# Altium schematic symbol library Semiconductor.SchLib: 45 symbols (part 1 of 2)
Pins are listed as number, name and electrical type; pins without a type are passive.

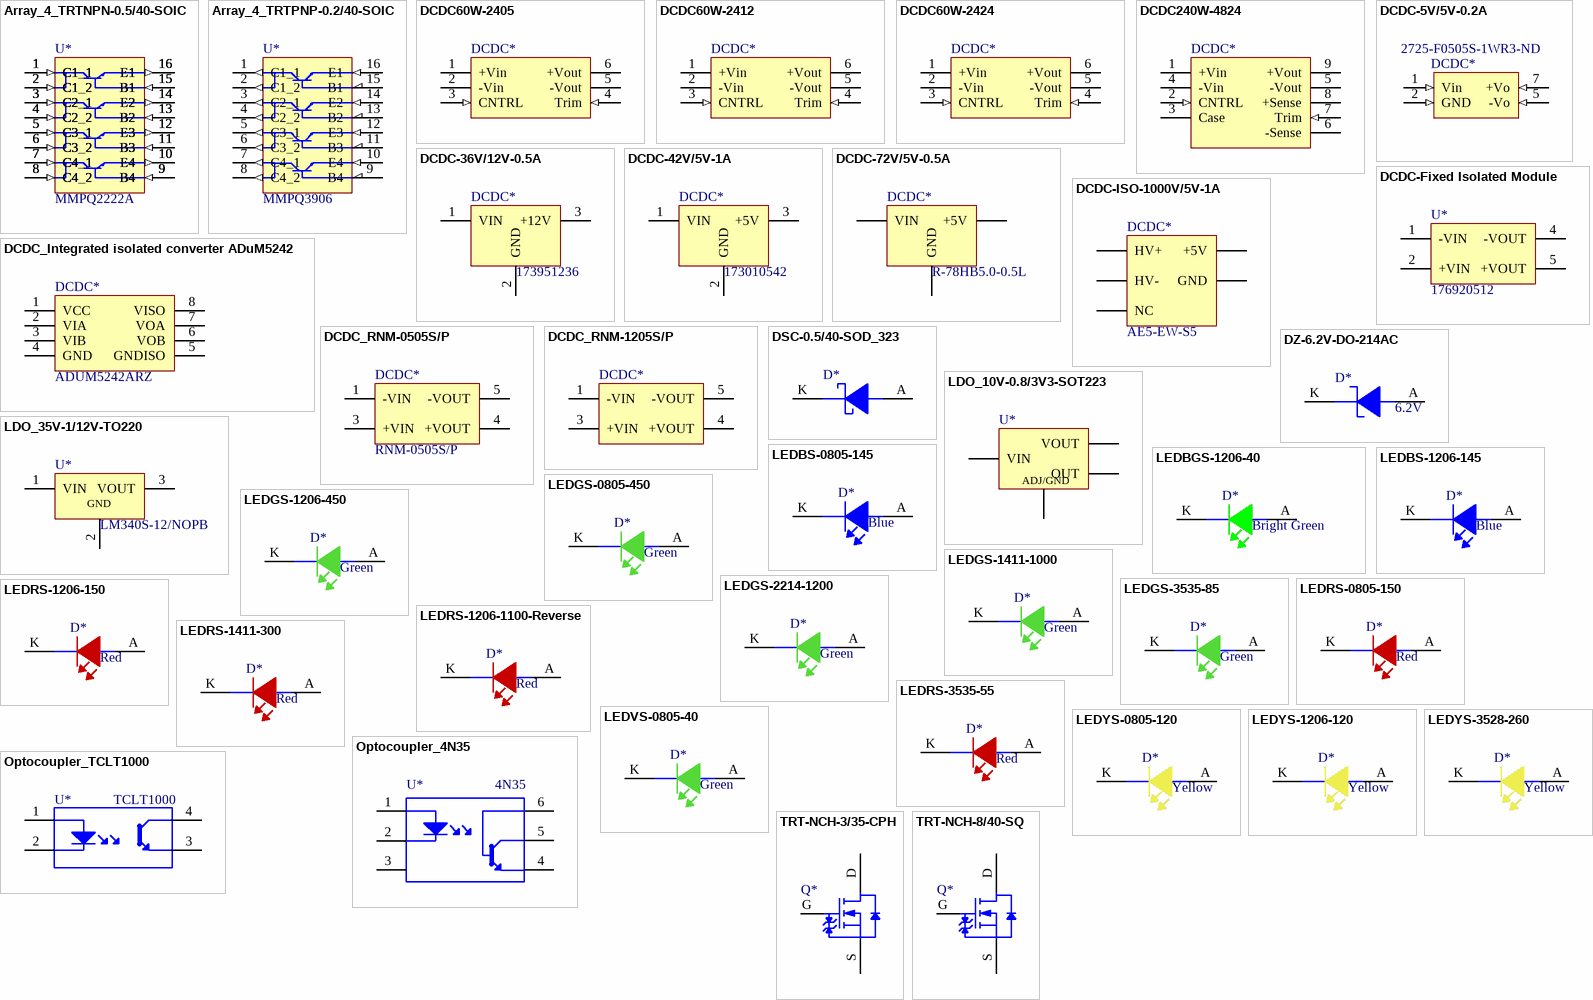
[diagram p0: symbols Array_4_TRTNPN-0.5/40-SOIC to TRT-NCH-8/40-SQ]

## Array_4_TRTNPN-0.5/40-SOIC
designator U*, comment MMPQ2222A
MMPQ Series NPN 40 V 500 mA 1000 mW SMT General Purpose Amplifier - SOIC-16; Manufacturer: onsemi / Fairchild; Max power dissipation: 1 W; Operating voltageBE sat: 2 V; Maximum collector current: 500 mA; Max Gain: 300; hFE Min: 100; Collector Emitter Voltage (VCEO): 40V; Collector Base Voltage (VCBO): 75V; Emitter Base Voltage (VEBO): 5V; Max Collector Current: 500mA; Gain Bandwidth Product: 350MHz; Collector Emitter Saturation Voltage: 1V; Transition Frequency: 300MHz; Number of Elements: 4; Power Dissipation: 1W; .Creator: GP; Category: Array; ComponentLink1Description: Datasheet; ComponentLink1URL: https://www.mouser.es/datasheet/2/308/1/MMPQ2222A_D-2316466.pdf; ComponentLink2Description: Where buy it; ComponentLink2URL: https://eu.mouser.com/ProductDetail/onsemi-Fairchild/MMPQ2222A?qs=sGAEpiMZZMsVgcksf1EMUhSy8Jez1Eyb; Package: SOIC 16; Type: BJT; Supplier: MOUSER; Packaging: Reel; Max operating temperature: 150ºC; Min operating temperature: -55ºC; Mount: SMD; RoHS: *; Polarity: NPN; Supplier 1: Digi-Key; Pricing 1: 1=2,10000, 10=1,88300, 100=1,51340, 500=1,24340, 1000=1,17302 (USD); Case/Package: SOIC; Number of Pins: 16; Weight: 0.143g; Package Quantity: 1; Collector Emitter Breakdown Voltage: 40V; Max Breakdown Voltage: 40V; Frequency: 300MHz; Max Frequency: 300MHz; Length: 10mm; Width: 4mm; Height: 1.5mm; Radiation Hardening: No; Lead Free: Lead Free; RoHS Compliant: Yes; REACH SVHC: No SVHC; Supplier Part Number 1: MMPQ2222ADKR-ND; .PCBcheck: *; .SCHcheck: *; Manufacturer part number: MMPQ2222A
footprint Array_4_TRTNPN-0.5/40-SOIC (SOIC, 16-Leads, Body 9,90x3,90mm, Pitch 1,27mm, IPC Low Density)
pins: 1 C1_1 (in), 1 C1_1 (in), 1 C1_1 (in), 1 C1_1 (in), 1 C1_1 (in), 1 C1_1 (in), 1 C1_1 (in), 1 C1_1 (in), 2 C1_2 (in), 2 C1_2 (in), 2 C1_2 (in), 2 C1_2 (in), 2 C1_2 (in), 2 C1_2 (in), 2 C1_2 (in), 2 C1_2 (in), 3 C2_1 (in), 3 C2_1 (in), 3 C2_1 (in), 3 C2_1 (in), 3 C2_1 (in), 3 C2_1 (in), 3 C2_1 (in), 3 C2_1 (in), 4 C2_2 (in), 4 C2_2 (in), 4 C2_2 (in), 4 C2_2 (in), 4 C2_2 (in), 4 C2_2 (in), 4 C2_2 (in), 4 C2_2 (in), 5 C3_1 (in), 5 C3_1 (in), 5 C3_1 (in), 5 C3_1 (in), 5 C3_1 (in), 5 C3_1 (in), 5 C3_1 (in), 5 C3_1 (in), 6 C3_2 (in), 6 C3_2 (in), 6 C3_2 (in), 6 C3_2 (in), 6 C3_2 (in), 6 C3_2 (in), 6 C3_2 (in), 6 C3_2 (in), 7 C4_1 (in), 7 C4_1 (in), 7 C4_1 (in), 7 C4_1 (in), 7 C4_1 (in), 7 C4_1 (in), 7 C4_1 (in), 7 C4_1 (in), 8 C4_2 (in), 8 C4_2 (in), 8 C4_2 (in), 8 C4_2 (in), 8 C4_2 (in), 8 C4_2 (in), 8 C4_2 (in), 8 C4_2 (in), 9 B4 (in), 9 B4 (in), 9 B4 (in), 9 B4 (in), 9 B4 (in), 9 B4 (in), 9 B4 (in), 9 B4 (in), 10 E4 (out), 10 E4 (out), 10 E4 (out), 10 E4 (out), 10 E4 (out), 10 E4 (out), 10 E4 (out), 10 E4 (out), 11 B3 (in), 11 B3 (in), 11 B3 (in), 11 B3 (in), 11 B3 (in), 11 B3 (in), 11 B3 (in), 11 B3 (in), 12 E3 (out), 12 E3 (out), 12 E3 (out), 12 E3 (out), 12 E3 (out), 12 E3 (out), 12 E3 (out), 12 E3 (out), 13 B2 (in), 13 B2 (in), 13 B2 (in), 13 B2 (in), 13 B2 (in), 13 B2 (in), 13 B2 (in), 13 B2 (in), 14 E2 (out), 14 E2 (out), 14 E2 (out), 14 E2 (out), 14 E2 (out), 14 E2 (out), 14 E2 (out), 14 E2 (out), 15 B1 (in), 15 B1 (in), 15 B1 (in), 15 B1 (in), 15 B1 (in), 15 B1 (in), 15 B1 (in), 15 B1 (in), 16 E1 (out), 16 E1 (out), 16 E1 (out), 16 E1 (out), 16 E1 (out), 16 E1 (out), 16 E1 (out), 16 E1 (out)

## Array_4_TRTPNP-0.2/40-SOIC
designator U*, comment MMPQ3906
4PNP Ic=-200mA Vceo=-40V hfe=100~300 P=1W 4通路; Manufacturer: onsemi / Fairchild; Max power dissipation: 1 W; Polarity: PNP; Operating voltage BE sat: -0.95 V; Maximum current collector: -200 mA; Max Gain: 75; Collector Emitter Voltage (VCEO): 40V; Max Collector Current: 200mA; Collector Base Voltage (VCBO): -40V; Emitter Base Voltage (VEBO): -5V; Gain Bandwidth Product: 200MHz; Collector Emitter Saturation Voltage: -100mV; Number of Elements: 4; Power Dissipation: 1W; Current Rating: -200mA; Collector-emitter Voltage-Max: 400mV; .Creator: GP; Category: Array; ComponentLink1Description: Datasheet; ComponentLink1URL: https://www.mouser.es/datasheet/2/308/MMPQ3906_D-2256510.pdf; ComponentLink2Description: Where buy it; ComponentLink2URL: https://www.mouser.es/ProductDetail/onsemi-Fairchild/MMPQ3906?qs=sGAEpiMZZMsVgcksf1EMUrQIjupPJFhO; Package: SOIC 16; Type: BJT; Supplier: MOUSER; Packaging: Reel; Max operating temperature: 150ºC; Min operating temperature: -55ºC; Mount: SMD; RoHS: *; Supplier 1: Digi-Key; Pricing 1: 1=2,10000, 10=1,88300, 100=1,51340, 500=1,24340, 1000=1,17302 (USD); Case/Package: SOIC; Number of Pins: 16; Weight: 0.143g; Package Quantity: 2500; hFE Min: 75; Collector Emitter Breakdown Voltage: 40V; Transition Frequency: 200MHz; Max Breakdown Voltage: 40V; Frequency: 200MHz; Max Frequency: 200MHz; Voltage Rating (DC): -40V; Series: -; Length: 10mm; Width: 4mm; Height: 1.5mm; Radiation Hardening: No; Lead Free: Lead Free; RoHS Compliant: Yes; REACH SVHC: No SVHC; Supplier Part Number 1: MMPQ3906DKR-ND; Manufacturer part number: MMPQ3906
footprint Array_4_TRTPNP-0.2/40-SOIC (SOIC, 16-Leads, Body 9,90x3,90mm, Pitch 1,27mm, IPC Low Density)
pins: 1 C1_1 (out), 2 C1_2 (out), 3 C2_1 (out), 4 C2_2 (out), 5 C3_1 (out), 6 C3_2 (out), 7 C4_1 (out), 8 C4_2 (out), 9 B4, 10 E4 (in), 11 B3, 12 E3 (in), 13 B2, 14 E2 (in), 15 B1, 16 E1 (in)

## DCDC60W-2405
designator DCDC*, comment RPA60-2405SFW  (value not drawn)
60W DC/DC-Converter 'POWERLINE' 2 x1 1.5kV reg 4: ; V. In: 9-36; V. Out: 05; mA. Out: 12000; Manufacturer: Recom; Manufacturer Part Number: RPA60-2405SFW/N; Max Output Voltage: 5.5V; .Creator: GP; Supplier 1: RSComponents; Supplier 2: Newark; RoHS: Yes; Category: Board Mount Modules; Pricing 2: 5=81,27000, 25=77,55000, 50=75,49000, 100=73,02000, 250=70,54000 (USD); Weight: 35g; Length: 50.8mm; Width: 25.4mm; Height: 10.2mm; Lead Free: Lead Free; ComponentLink1URL: https://www.recom-power.com/pdf/Powerline-DC-DC/RPA60-FW.pdf?src-supplier=Digi-Key; ComponentLink1Description: https://www.recom-power.com/pdf/Powerline-DC-DC/RPA60-FW.pdf?src-supplier=Digi-Key; Supplier Part Number 2: 99Y7315
footprint DCDC60W-24
pins: 1 +Vin (power), 2 -Vin (power), 3 CNTRL (in), 4 Trim (in), 5 -Vout (power), 6 +Vout (power)

## DCDC60W-2412
designator DCDC*, comment RPA60-2412SFW  (value not drawn)
60W DC/DC-Converter 'POWERLINE' 2 x1 1.5kV reg 4: ; V. In: 9-36; V. Out: 12; mA. Out: 5000; Manufacturer: Recom; Manufacturer Part Number: RPA60-2412SFW/P; Max Output Voltage: 13.2V; .Creator: GP; Supplier 1: RSComponents; RoHS: Yes; Category: Voltage Regulators - Switching; Stock 1: 23; Pricing 1: 1=70,90300, 5=68,06500, 10=66,65300, 25=65,22800, 50=63,81600 (USD); Weight: 35g; Length: 50.8mm; Width: 25.4mm; Height: 10.2mm; Lead Free: Lead Free; ComponentLink1URL: https://www.recom-power.com/pdf/Powerline-DC-DC/RPA60-FW.pdf?src-supplier=Digi-Key; ComponentLink1Description: https://www.recom-power.com/pdf/Powerline-DC-DC/RPA60-FW.pdf?src-supplier=Digi-Key; Supplier Part Number 1: 1244227
footprint DCDC60W-24
pins: 1 +Vin (power), 2 -Vin (power), 3 CNTRL (in), 4 Trim (in), 5 -Vout (power), 6 +Vout (power)

## DCDC60W-2424
designator DCDC*, comment RPA60-2424SFW  (value not drawn)
60W DC/DC-Converter 'POWERLINE' 2 x1 1.5kV reg 4: ; V. In: 9-36; V. Out: 24; mA. Out: 2500; Manufacturer: Recom; Manufacturer Part Number: RPA60-2424SFW/P; Max Output Voltage: 26.4V; .Creator: GP; Supplier 1: RSComponents; RoHS: Yes; Category: Voltage Regulators - Switching; Stock 1: 1; Pricing 1: 1=70,91700, 5=68,79200, 10=66,66700, 25=64,52800, 50=62,40300 (USD); Weight: 35g; Length: 50.8mm; Width: 25.4mm; Height: 10.2mm; Lead Free: Lead Free; ComponentLink1URL: https://www.recom-power.com/pdf/Powerline-DC-DC/RPA60-FW.pdf?src-supplier=Digi-Key; ComponentLink1Description: https://www.recom-power.com/pdf/Powerline-DC-DC/RPA60-FW.pdf?src-supplier=Digi-Key; Supplier Part Number 1: 1244229
footprint DCDC60W-24
pins: 1 +Vin (power), 2 -Vin (power), 3 CNTRL (in), 4 Trim (in), 5 -Vout (power), 6 +Vout (power)

## DCDC240W-4824
designator DCDC*, comment RP240H-4824SRW  (value not drawn)
240W DC/DC-Converter 'POWERLINE' 1/2 Brick 2.25kV ; V. In: 16.5-75; V. Out: 24; mA. Out: 9000; Manufacturer: Recom; Manufacturer Part Number: RP240H-4824SRW/P; Max Output Voltage: 26.4V; .Creator: GP; Supplier 1: Digi-Key; RoHS: Yes; Category: Board Mount Modules; Stock 1: 26; Pricing 1: 1=284,28000, 5=273,12600, 10=268,64800, 25=250,73800 (USD); Weight: 105g; Length: 61mm; Width: 57.9mm; Height: 12.7mm; RoHS Compliant: Yes; ComponentLink1URL: https://www.recom-power.com/pdf/Powerline-DC-DC/RP240H-RW.pdf?src-supplier=Digi-Key; ComponentLink1Description: https://www.recom-power.com/pdf/Powerline-DC-DC/RP240H-RW.pdf?src-supplier=Digi-Key; Supplier Part Number 1: RP240H-4824SRW/P-ND
footprint DCDC240W-4824
pins: 1 +Vin (power), 2 CNTRL (in), 3 Case, 4 -Vin (power), 5 -Vout (power), 6 -Sense, 7 Trim (in), 8 +Sense, 9 +Vout (power)

## DCDC-5V/5V-0.2A
designator DCDC*  Supplier Part Number 1: 2725-F0505S-1WR3-ND
Module DC-DC 5VIN 1-OUT 5V 0.2A 1W 4-Pin SIP Module Bag; Manufacturer: MORNSUN; Manufacturer Part Number: F0505S-1WR3; Supplier 1: Digi-Key; RoHS: No; Category: Board Mount Modules; Stock 1: 23492; Pricing 1: 1=2,32, 5=2,288, 10=2,255, 25=2,1884, 50=2,1222, 100=2,0559, 250=1,98956, 500=1,85692 (USD); ComponentLink1Description: New link; ComponentLink1URL: *
footprint F_S-1WR3
pins: 1 Vin (in), 2 GND (in), 5 -Vo (in), 7 +Vo (in)

## DCDC-36V/12V-0.5A
designator DCDC*, comment 173951236
Fdsm Fixed Step Down Regulator M; Manufacturer 1: Wurth Electronics; Supplier 1: Digi-Key; Manufacturer Part Number 1: 173951236; RoHS: No; Category: Board Mount Modules; Stock 1: 32; Pricing 1: 1=3,29000, 10=2,99100, 20=2,81300, 30=2,63600, 43=2,39907 (USD); Supplier Part Number 1: 732-173951236-ND; ComponentLink1Description: Datasheet; ComponentLink1URL: https://www.we-online.com/catalog/datasheet/173951236.pdf
footprint DCDC_Magi3c
pins: 1 VIN, 2 GND, 3 +12V

## DCDC-42V/5V-1A
designator DCDC*, comment 173010542
Würth Elektronik 8-42V to 5V 1A DC-DC; Manufacturer 1: Wurth Electronics; Number of Outputs: 1; Min Input Voltage: 8V; Max Input Voltage: 42V; Efficiency: 93%; .Creator: DR; Supplier 1: RSComponents; Manufacturer Part Number 1: 173010542; RoHS: Yes; Stock 1: 1; Pricing 1: 1=12,22500, 8=10,96900, 21=10,68900 (USD); Mount: Through Hole; Min Operating Temperature: -40°C; Max Operating Temperature: 85°C; Features: UVLO,OCP,OTP,SCP; Packaging: Rail/Tube; Voltage - Output 1: 5V; Max Output Current: 1A; RoHS Compliant: Yes; ComponentLink1URL: http://www.farnell.com/datasheets/2192895.pdf?src-supplier=Farnell; ComponentLink1Description: http://www.farnell.com/datasheets/2192895.pdf?src-supplier=Farnell; ComponentLink2URL: http://www.farnell.com/datasheets/2192895.pdf?src-supplier=Newark; ComponentLink2Description: http://www.farnell.com/datasheets/2192895.pdf?src-supplier=Newark; ComponentLink3URL: https://katalog.we-online.de/pm/datasheet/173010542.pdf?src-supplier=Digi-Key; ComponentLink3Description: https://katalog.we-online.de/pm/datasheet/173010542.pdf?src-supplier=Digi-Key; Supplier Part Number 1: 1447809
footprint DCDC_Magi3c
pins: 1 VIN, 2 GND, 3 +5V

## DCDC-72V/5V-0.5A
designator DCDC*, comment R-78HB5.0-0.5L
0.5A DC/DC-Converter 'INNOLINE' SIP3 reg; V. In: 9-72; V. Out: 5.0; mA. Out: 500; Manufacturer 1: Recom; Min Input Voltage: 9V; Max Input Voltage: 72V; Number of Outputs: 1; Nominal Output Voltage: 5V; Max Output Current: 500mA; Efficiency: 87%; Nominal Input Voltage: 48V; Isolation Voltage: 1.6kV; Power Rating: 2.5W; Isolation: Non-Isolated; Accuracy: 2%; Pitch: 2.54mm; .Creator: DR; ComponentLink1URL: https://www.mouser.es/datasheet/2/468/R-78HB-0.5-1711026.pdf; ComponentLink1Description: Datasheet; ComponentLink2Description: Where buy it; ComponentLink2URL: https://www.mouser.es/ProductDetail/RECOM-Power/R-78HB50-05L?qs=XF8hdbuHJAWcQ9kfabZ7zw%3D%3D; Supplier 1: RSComponents; Manufacturer Part Number 1: R-78HB5.0-0.5L; RoHS: Yes; Category: Voltage Regulators - Switching; Stock 1: 1; Pricing 1: 1=15,32000, 5=14,71600, 10=14,39500, 25=14,10000, 50=13,80500 (USD); Mount: Through Hole,PCB; Case/Package: SIP; Weight: 4g; Min Operating Temperature: -40°C; Max Operating Temperature: 85°C; Output Voltage: 5V; Packaging: Rail/Tube; Output Current: 500mA; Min Input Voltage (DC): 9V; Max Input Voltage (DC): 72V; Package Quantity: 42; Voltage - Output 1: 5V; Current - Output 1: 500mA; Output Power: 2.5W; Max Output Power: 2.5W; Max Power Dissipation: 2.5W; Max Output Voltage: 5V; Features: OTP,SCP; Series: INNOLINE R-78HBxx; Length: 11.5mm; Width: 8.5mm; Height: 17.5mm; Depth: 11.5mm; REACH SVHC: No SVHC; Lead Free: Lead Free; RoHS Compliant: Yes; ComponentLink3URL: https://datasheet.ciiva.com/11837/0900766b80d61d69-11837279.pdf?src-supplier=RSComponents; ComponentLink3Description: https://datasheet.ciiva.com/11837/0900766b80d61d69-11837279.pdf?src-supplier=RSComponents; ComponentLink4URL: https://datasheet.ciiva.com/29184/676157-da-01-en-dc-dc-wandler-r-78hb5-0-0-5l-29184439.pdf?src-supplier=Conrad; ComponentLink4Description: https://datasheet.ciiva.com/29184/676157-da-01-en-dc-dc-wandler-r-78hb5-0-0-5l-29184439.pdf?src-supplier=Conrad; ComponentLink5URL: https://datasheet.ciiva.com/2374/r-78hbxx-0-5-l-2374159.pdf?src-supplier=Digi-Key; ComponentLink5Description: https://datasheet.ciiva.com/2374/r-78hbxx-0-5-l-2374159.pdf?src-supplier=Digi-Key; ComponentLink6URL: https://datasheet.ciiva.com/4645/r-78hbxx-0-5-l-226048-4645094.pdf?src-supplier=Mouser; ComponentLink6Description: https://datasheet.ciiva.com/4645/r-78hbxx-0-5-l-226048-4645094.pdf?src-supplier=Mouser; ComponentLink7URL: https://datasheet.ciiva.com/14184/r78hbxx05-eng-datasheet-14184326.pdf?src-supplier=Distrelec; ComponentLink7Description: https://datasheet.ciiva.com/14184/r78hbxx05-eng-datasheet-14184326.pdf?src-supplier=Distrelec; Supplier Part Number 1: 6727095P
footprint DCDC_Slaves
pins: 1 VIN, 2 GND, 3 +5V

## DCDC-Fixed Isolated Module
designator U*, comment 176920512
Dc-dc Converter, 5V, 0.2A; Manufacturer: Wurth Electronics; .Creator: GP; Supplier 1: RSComponents; RoHS: Yes; Category: Board Mount Modules; Stock 1: 34; Pricing 1: 1=5,87000, 25=5,08000, 50=4,79000, 100=4,44000, 250=4,34000 (GBP); Supplier Part Number 1: 2069438; ComponentLink1Description: Datasheet; ComponentLink1URL: https://www.we-online.com/catalog/datasheet/176920512.pdf; ComponentLink2Description: Where buy it; ComponentLink2URL: https://www.we-online.com/catalog/en/MAGIC-FISM?sq=176920512#176920512; Manufacturer Part Number: 176920512
footprint DCDC-Fixed Isolated Module (SOP, 8-Leads, Body 12,55x9,89mm, Pitch 2,54mm, IPC Medium Density)
pins: 1 -VIN, 2 +VIN, 4 -VOUT, 5 +VOUT

## DCDC-ISO-1000V/5V-1A
designator DCDC*, comment AE5-EW-S5
dc-dc isolated, 5 W, 100~1000 Vdc input, 5V, 1 A, DIP, ext temp; Manufacturer 1: CUI; .Creator: DR; ComponentLink1URL: https://www.mouser.es/datasheet/2/670/ae5_ew-1774237.pdf; ComponentLink1Description: Datasheet; ComponentLink2Description: Where buy it; ComponentLink2URL: https://www.mouser.es/ProductDetail/CUI-Inc/AE5-EW-S5?qs=f9yNj16SXrJNGSJA82%2F47g%3D%3D; Supplier 1: Digi-Key; RoHS: Yes; Category: Board Mount Modules; Stock 1: 12; Pricing 1: 1=50,11000, 5=49,72000 (USD); RoHS Compliant: No; Supplier Part Number 1: 102-4489-ND; Manufacturer Part Number 1: AE5-EW-S5
footprint DCDC_1000-5_ISO
pins: 1 NC, 2 HV-, 3 HV+, 4 +5V, 5 GND

## DCDC_Integrated isolated converter ADuM5242
designator DCDC*, comment Manufacturer Part Number: ADUM5242ARZ  (hidden comment: ADuM5242)
Digital Isolator, Dual, 2, 70 Ns, 2.7 V, 4 V, Soic, 8 Rohs Compliant: Yes; Manufacturer: Analog Devices; Number of Channels: 2; Propagation Delay: 70ns; Rise Time: 2.5ns; Min Supply Voltage: 2.7V; Max Supply Voltage: 5.5V; Data Rate: 1Mbps; Channel Type: Unidirectional; Power Dissipation: 50mW; Pulse Width Distortion (PWD): 3ns; Max Output Current: 10mA; Max Input Current: 10uA; Isolation Voltage: 2.5kV; .Creator: DR; Supplier 1: Digi-Key; RoHS: Yes; Category: Interface ICs; Pricing 1: 1=8,55000, 10=7,72600, 25=7,36640, 100=6,39630, 250=6,10880, 500=5,59350 (USD); Case/Package: R; Number of Pins: 8; Contact Plating: Tin,Matte; Min Operating Temperature: -40°C; Max Operating Temperature: 105°C; Package Quantity: 98; Packaging: Rail/Tube; Turn-On Delay Time: 70ns; Isolated Power: Yes; Type: General Purpose; Series: IsoPower®, iCoupler®; Length: 5mm; Width: 4mm; Depth: 1.5mm; Radiation Hardening: No; Lead Free: Contains Lead; RoHS Compliant: Yes; REACH SVHC: No SVHC; ComponentLink1URL: https://datasheet.ciiva.com/11772/0900766b80e48183-11772356.pdf?src-supplier=RSComponents; ComponentLink1Description: https://datasheet.ciiva.com/11772/0900766b80e48183-11772356.pdf?src-supplier=RSComponents; ComponentLink2URL: https://datasheet.ciiva.com/15134/getdatasheetpartid-67812-15134142.pdf?src-supplier=Verical; ComponentLink2Description: https://datasheet.ciiva.com/15134/getdatasheetpartid-67812-15134142.pdf?src-supplier=Verical; ComponentLink3URL: https://datasheet.ciiva.com/26911/adum5242arz-26911858.pdf?src-supplier=IIIC; ComponentLink3Description: https://datasheet.ciiva.com/26911/adum5242arz-26911858.pdf?src-supplier=IIIC; ComponentLink4URL: https://datasheet.ciiva.com/2081/adum5240-5241-5242-2081908.pdf?src-supplier=Digi-Key; ComponentLink4Description: https://datasheet.ciiva.com/2081/adum5240-5241-5242-2081908.pdf?src-supplier=Digi-Key; ComponentLink5URL: https://datasheet.ciiva.com/1148/1610748-1148137.pdf?src-supplier=Element14; ComponentLink5Description: https://datasheet.ciiva.com/1148/1610748-1148137.pdf?src-supplier=Element14; ComponentLink6URL: https://datasheet.ciiva.com/3148/adum5240-5241-5242-3148379.pdf?src-supplier=Avnet; ComponentLink6Description: https://datasheet.ciiva.com/3148/adum5240-5241-5242-3148379.pdf?src-supplier=Avnet; ComponentLink7URL: https://datasheet.ciiva.com/16618/adum5240-5241-5242-16618062.pdf?src-supplier=Avnet+Europe; ComponentLink7Description: https://datasheet.ciiva.com/16618/adum5240-5241-5242-16618062.pdf?src-supplier=Avnet+Europe; Supplier Part Number 1: 505-ADUM5242ARZ-ND; ComponentLink8Description: Where buy it; ComponentLink8URL: https://www.mouser.es/ProductDetail/Analog-Devices/ADUM5242ARZ-RL7?qs=WIvQP4zGangVSI5ZyMwuoA%3D%3D
footprint DCDC_Integrated isolated converter ADuM5242 (SOIC, 8-Leads, Body 4,90x3,90mm, Pitch 1,27mm, IPC Medium Density)
pins: 1 VCC, 2 VIA, 3 VIB, 4 GND, 5 GNDISO, 6 VOB, 7 VOA, 8 VISO

## DCDC_RNM-0505S/P
designator DCDC*, comment RNM-0505S/P
1W DC/DC-Converter 'ECONOLINE' DIP6 1kV unreg; V. In: 05; V. Out: 05; mA. Out: 200; Manufacturer: Recom; Min Input Voltage: 4.5V; Number of Outputs: 1; Voltage - Output 1: 5V; Max Input Voltage: 5.5V; Max Output Current: 200mA; Efficiency: 78%; Isolation: Isolated; .Creator: GP; ComponentLink1Description: Where buy it; ComponentLink1URL: https://recom-power.com/en/products/dc-dc-converters/rec-p-RNM-0505S!sP.html?0; Supplier 1: Digi-Key; RoHS: Yes; Category: Voltage Regulators - Switching; Pricing 1: 1=8,32000, 5=8,20400, 10=8,08600, 25=7,84840, 50=7,61040, 100=7,37260, 250=7,13476, 440=6,65909 (USD); Mount: Through Hole; Case/Package: DIP; Number of Pins: 4; Weight: 1.1g; Min Operating Temperature: -40°C; Max Operating Temperature: 85°C; Output Power: 1W; Packaging: Rail/Tube; Isolation Voltage: 1kV; Package Quantity: 60; Nominal Input Voltage: 5V; Max Power Dissipation: 1W; Max Output Voltage: 5V; Features: SCP; Series: ECONOLINE RNM; Output Current: 200mA; Output Voltage: 5V; Max Output Power: 1W; Current - Output 1: 200mA; Min Input Voltage (DC): 4.5V; Max Input Voltage (DC): 5.5V; Length: 8.3mm; Width: 8.3mm; Height: 6.8mm; Depth: 8.3mm; Lead Free: Lead Free; RoHS Compliant: Yes; ComponentLink2URL: https://datasheet.ciiva.com/2172/rnm-2172491.pdf?src-supplier=Digi-Key; ComponentLink2Description: https://datasheet.ciiva.com/2172/rnm-2172491.pdf?src-supplier=Digi-Key; Supplier Part Number 1: 945-2307-5-ND; Manufacturer Part Number: RNM-0505S/P
footprint DCDC_RNM-XX05S/P
pins: 1 -VIN, 3 +VIN, 4 +VOUT, 5 -VOUT

## DCDC_RNM-1205S/P
designator DCDC*, comment RNM-1205S/P  (value not drawn)
1W DC/DC-Converter 'ECONOLINE' DIP6 1kV unreg; V. In: 12; V. Out: 05; mA. Out: 200; Manufacturer 1: Recom; Min Input Voltage: 10.8V; Number of Outputs: 1; Efficiency: 78%; Voltage - Output 1: 5V; Max Input Voltage: 13.2V; Max Output Current: 200mA; Nominal Input Voltage: 12V; Supplier 1: Mouser; Manufacturer Part Number 1: RNM-1205S/P; RoHS: Yes; Category: Voltage Regulators - Switching; Stock 1: 40; Pricing 1: 1=8,32000, 10=8,08000, 50=7,84000, 100=7,60000, 1000=6,65000, 10000=6,42000 (USD); Mount: Through Hole; Case/Package: DIP; Weight: 1.1g; Min Operating Temperature: -40°C; Max Operating Temperature: 85°C; Output Power: 1W; Packaging: Rail/Tube; Package Quantity: 60; Isolation Voltage: 1kV; Max Power Dissipation: 1W; Max Output Voltage: 5V; Features: SCP; Series: ECONOLINE RNM; Length: 8.3mm; Width: 8.3mm; Height: 6.8mm; Lead Free: Lead Free; RoHS Compliant: Yes; ComponentLink1URL: https://datasheet.ciiva.com/2172/rnm-2172495.pdf?src-supplier=Digi-Key; ComponentLink1Description: https://datasheet.ciiva.com/2172/rnm-2172495.pdf?src-supplier=Digi-Key; Supplier Part Number 1: 919-RNM-1205S/P
footprint DCDC_RNM-XX05S/P
pins: 1 -VIN, 3 +VIN, 4 +VOUT, 5 -VOUT

## DSC-0.5/40-SOD_323
designator D*, comment CMDSH05-4 TR PBFREE  (value not drawn)
CMDSH Series 40 V 500 mA Surface Mount Schottky Diode - SOD-323; Manufacturer: Central Semiconductor; Forward Voltage: 470mV; Average Rectified Current: 500mA; Peak Non-Repetitive Surge Current: 10A; Max Repetitive Reverse Voltage (Vrrm): 40V; Max Reverse Current: 100uA; Power Dissipation: 250mW; Element Configuration: Single; .Creator: GP; Category: Diode; ComponentLink1Description: Datasheet; ComponentLink1URL: https://my.centralsemi.com/datasheets/CMDSH05-4.PDF; ComponentLink2Description: Where buy it; ComponentLink2URL: https://eu.mouser.com/ProductDetail/Central-Semiconductor/CMDSH05-4-TR-PBFREE?qs=u16ybLDytRZ65hpUpJcxrg%3D%3D; Supplier 1: Digi-Key; Manufacturer Part Number: CMDSH05-4TR; RoHS: No; Pricing 1: 1=0,39000, 10=0,32000, 100=0,21790, 500=0,16342, 1000=0,12256 (USD); Mount: Surface Mount; Number of Pins: 2; Weight: 0.001164oz; Min Operating Temperature: -65°C; Max Operating Temperature: 150°C; Packaging: Tape and Reel; Termination: SMD/SMT; Forward Current: 500mA; Max Forward Surge Current (Ifsm): 10A; Max Power Dissipation: 250mW; Package Quantity: 3000; Max Reverse Voltage (DC): 40V; Series: -; Length: 1.8mm; Width: 1.35mm; Height: 1mm; Radiation Hardening: No; RoHS Compliant: No; Lead Free: Lead Free; Supplier Part Number 1: 1514-CMDSH05-4TRPBFREEDKR-ND
footprint DSC-0.5/40-SOD_323 (TSOP, 2-Leads, Body 1,25x1,70mm, Pitch 1,27mm, IPC Low Density)
pins: A, K

## DZ-6.2V-DO-214AC
designator D*, comment Zener Voltage: 6.2V  (hidden comment: BZG05C6V2-E3-TR)
BZG05C Series 6.2 V 200 mA Surface Mount Zener Diode - DO-214AC; Manufacturer 1: Vishay Semiconductors; Max Power Dissipation: 1.25W; Impedance: 4R; Max Reverse Leakage Current: 1uA; Tolerance: 5%; Test Current: 35mA; .Creator: DO; ComponentLink1Description: Datasheet; ComponentLink1URL: http://www.mouser.com/ds/2/427/bzg05c-710097.pdf?src-supplier=Mouser; ComponentLink2Description: Where buy it; ComponentLink2URL: https://www.mouser.es/ProductDetail/Vishay-Semiconductors/BZG05C6V2-E3-TR?qs=PhR8RmCirEbIeyTQuBsADg%3D%3D; Supplier 1: Farnell; Manufacturer Part Number 1: BZG05C6V2-E3-TR; RoHS: Yes; Category: Zener Diodes; Pricing 1: 1=0,06810 (GBP); Mount: Surface Mount; Number of Pins: 2; Contact Plating: Tin,Matte; Min Operating Temperature: -65°C; Max Operating Temperature: 150°C; Packaging: Tape and Reel; RoHS Compliant: Yes; Lead Free: Lead Free; ComponentLink3URL: http://www.mouser.com/ds/2/427/bzg05c-710097.pdf?src-supplier=Mouser; ComponentLink3Description: http://www.mouser.com/ds/2/427/bzg05c-710097.pdf?src-supplier=Mouser; ComponentLink4URL: http://www.vishay.com/docs/85893/bzg05c.pdf?src-supplier=Avnet; ComponentLink4Description: http://www.vishay.com/docs/85893/bzg05c.pdf?src-supplier=Avnet; ComponentLink5URL: http://www.vishay.com/docs/85893/bzg05c.pdf?src-supplier=Digi-Key; ComponentLink5Description: http://www.vishay.com/docs/85893/bzg05c.pdf?src-supplier=Digi-Key; Supplier Part Number 1: 2690001
footprint DZ-6.2V-DO-214AC (TSOP, 2-Leads, Body 1,25x1,70mm, Pitch 1,27mm, IPC Low Density)
pins: A, K

## LDO_10V-0.8/3V3-SOT223
designator U*, comment LM1117IMP-3.3/NOPB  (value not drawn)
LDO Regulator Pos 3.3V 0.8A 4-Pin(3+Tab) SOT-223 T/R / IC REG LDO 3.3V 0.8A SOT223; Manufacturer: Texas Instruments; Number of Outputs: 1; Max Input Voltage: 15V; Max Output Current: 800mA; Polarity: Positive; Quiescent Current: 15mA; Accuracy: 1%; Output Type: Fixed; Dropout Voltage: 1.2V; Min Input Voltage: 2.6V; Max Supply Voltage: 10V; Min Supply Voltage: 4.75V; Current Rating: 800A; .Creator: GP; ComponentLink1URL: https://www.ti.com/lit/ds/symlink/lm1117.pdf?HQS=dis-mous-null-mousermode-dsf-pf-null-wwe&DCM=yes&ref_url=https%3A%2F%2Fwww.mouser.de%2F&distId=26; ComponentLink1Description: Datasheet; ComponentLink2Description: Where buy it; ComponentLink2URL: https://www.mouser.es/ProductDetail/Texas-Instruments/LM1117IMP-33-NOPB?qs=X1J7HmVL2ZFbpN1TgOsjYQ%3D%3D; Supplier 1: Digi-Key; Manufacturer Part Number: LM1117IMP-3.3/NOPB; RoHS: Yes; Category: LDO; Pricing 1: 1=1,41000, 10=1,26300, 25=1,19920, 100=0,98500, 250=0,92072, 500=0,81366 (USD); Mount: Surface Mount; Case/Package: SOT-223; Number of Pins: 4; Min Operating Temperature: -40°C; Max Operating Temperature: 125°C; Output Voltage: 3.3V; Packaging: Tape and Reel; Output Current: 800mA; Nominal Output Voltage: 3.3V; Termination: SMD/SMT; Output Voltage Accuracy: 1%; Number of Regulators: 1; Min Current Limit: 800mA; Package Quantity: 1000; Length: 6.5mm; Width: 3.56mm; Height: 1.6mm; Radiation Hardening: No; REACH SVHC: No SVHC; Lead Free: Lead Free; RoHS Compliant: Yes; ComponentLink3URL: https://datasheet.ciiva.com/27051/1281318-27051810.pdf?src-supplier=Jameco; ComponentLink3Description: https://datasheet.ciiva.com/27051/1281318-27051810.pdf?src-supplier=Jameco; ComponentLink4URL: https://datasheet.ciiva.com/8042/1670636-8042261.pdf?src-supplier=Element14; ComponentLink4Description: https://datasheet.ciiva.com/8042/1670636-8042261.pdf?src-supplier=Element14; ComponentLink5URL: https://datasheet.ciiva.com/1570/1849796-1570171.pdf?src-supplier=Farnell; ComponentLink5Description: https://datasheet.ciiva.com/1570/1849796-1570171.pdf?src-supplier=Farnell; ComponentLink6URL: https://datasheet.ciiva.com/14149/lm1117-eng-tds-14149980.pdf?src-supplier=Distrelec; ComponentLink6Description: https://datasheet.ciiva.com/14149/lm1117-eng-tds-14149980.pdf?src-supplier=Distrelec; ComponentLink7URL: https://datasheet.ciiva.com/46386/1882372-46386042.pdf?src-supplier=Element14; ComponentLink7Description: https://datasheet.ciiva.com/46386/1882372-46386042.pdf?src-supplier=Element14; ComponentLink8URL: https://datasheet.ciiva.com/3223/lm1117-n-3223515.pdf?src-supplier=Avnet; ComponentLink8Description: https://datasheet.ciiva.com/3223/lm1117-n-3223515.pdf?src-supplier=Avnet; ComponentLink9URL: https://datasheet.ciiva.com/6580/lm1117-n-6580030.pdf?src-supplier=Digi-Key; ComponentLink9Description: https://datasheet.ciiva.com/6580/lm1117-n-6580030.pdf?src-supplier=Digi-Key; ComponentLink10URL: https://datasheet.ciiva.com/6580/lm1117-n-6580026.pdf?src-supplier=Digi-Key; ComponentLink10Description: https://datasheet.ciiva.com/6580/lm1117-n-6580026.pdf?src-supplier=Digi-Key; Supplier Part Number 1: LM1117IMP-3.3/NOPBCT-ND
footprint LDO_10V-0.8/3V3-SOT223 (SOT223, 4-Leads, Body 6,50x7,00mm (avg), Pitch 2,30mm, IPC Low Density)
pins: 1 ADJ/GND, 2 OUT, 3 VIN, 4 VOUT

## LDO_35V-1/12V-TO220
designator U*, comment LM340S-12/NOPB
1.5-A, 35-V, linear voltage regulator 3-TO-220 -40 to 125; Manufacturer: Texas Instruments; Dropout Voltage: 2V; Quiescent Current: 8mA; Number of Outputs: 1; Max Input Voltage: 35V; Max Output Current: 1A; Output Voltage: 12V; Polarity: Positive; Accuracy: 2%; Output Type: Fixed; .Creator: AC; Supplier 1: Digi-Key; RoHS: Yes; Category: Voltage Regulators - Linear; Pricing 1: 1=1,97000, 10=1,76700, 25=1,66680, 100=1,42020, 250=1,33348, 500=1,16680, 1000=1,10075 (USD); Mount: Through Hole; Case/Package: TO-220; Number of Pins: 3; Min Operating Temperature: -40°C; Max Operating Temperature: 125°C; Packaging: Rail/Tube; Output Current: 1A; Package Quantity: 45; Output Voltage Accuracy: 2%; Series: LM340-N; Voltage: 12V; Length: 10.16mm; Width: 4.7mm; Height: 8.89mm; Radiation Hardening: No; Lead Free: Lead Free; RoHS Compliant: Yes; ComponentLink1URL: https://datasheet.ciiva.com/16490/lm340-n-16490133.pdf?src-supplier=Avnet+Asia; ComponentLink1Description: https://datasheet.ciiva.com/16490/lm340-n-16490133.pdf?src-supplier=Avnet+Asia; Supplier Part Number 1: 296-50628-ND; ComponentLink2Description: Where buy it; ComponentLink2URL: https://es.rs-online.com/web/p/reguladores-de-tension/1977323; Manufacturer Part Number: LM340S-12/NOPB
footprint LDO_35V-1/12V-TO220 (D2-PAK, 4-Pads, Body 7,55x8,57mm (max), IPC Medium Density)
pins: 1 VIN, 2 GND, 3 VOUT

## LEDBGS-1206-40
designator D*, comment Color: Bright Green  (hidden comment: 150120VS75000)
Led, Green, 570 Nm, 2 V, 30 Ma, 40 Mcd Rohs Compliant: Yes; Manufacturer: Wurth Electronics; Luminous Intensity: 40mcd; Forward Current: 30mA; Viewing Angle: 140°; Lens Style: Clear,Rectangular; Wavelength: 570nm; Test Current: 20mA; Forward Voltage: 2V; .Creator: GP; Supplier 1: RSComponents; Manufacturer Part Number: 150120VS75000; RoHS: Yes; Category: LEDs; Stock 1: 1; Pricing 1: 50=0,23500, 500=0,16600, 750=0,15700, 1500=0,15100, 3000=0,14500 (USD); Mount: Surface Mount; Case/Package: 1206; Case Code (Metric): 3216; Case Code (Imperial): 1206; Min Operating Temperature: -40°C; Max Operating Temperature: 85°C; Package Quantity: 1; Packaging: Tape and Reel; Dominant Wavelength: 570nm; Length: 3.2mm; Width: 1.6mm; Height: 0.68mm; REACH SVHC: Unknown; RoHS Compliant: Yes; ComponentLink1URL: https://datasheet.ciiva.com/29561/150120vs75000-29561865.pdf?src-supplier=Digi-Key; ComponentLink1Description: https://datasheet.ciiva.com/29561/150120vs75000-29561865.pdf?src-supplier=Digi-Key; ComponentLink2URL: https://datasheet.ciiva.com/29279/759444-da-01-en-chipled-1206-w-kl-h-gruen-150120vs7500-29279050.pdf?src-supplier=Conrad; ComponentLink2Description: https://datasheet.ciiva.com/29279/759444-da-01-en-chipled-1206-w-kl-h-gruen-150120vs7500-29279050.pdf?src-supplier=Conrad; ComponentLink3URL: https://datasheet.ciiva.com/29561/150120vs75000-29561866.pdf?src-supplier=Digi-Key; ComponentLink3Description: https://datasheet.ciiva.com/29561/150120vs75000-29561866.pdf?src-supplier=Digi-Key; ComponentLink4URL: https://datasheet.ciiva.com/22656/1911467-22656987.pdf?src-supplier=Element14; ComponentLink4Description: https://datasheet.ciiva.com/22656/1911467-22656987.pdf?src-supplier=Element14; ComponentLink5URL: https://datasheet.ciiva.com/29561/150120vs75000-29561867.pdf?src-supplier=Digi-Key; ComponentLink5Description: https://datasheet.ciiva.com/29561/150120vs75000-29561867.pdf?src-supplier=Digi-Key; Supplier Part Number 1: 8154253P; ComponentLink6Description: Where buy it; ComponentLink6URL: https://www.we-online.com/catalog/en/WL-SMCW#/articles/WL-SMCW-1206
footprint LED_1206_WE (SODFL, 2-Leads, Body 1,60x3,20mm, IPC Medium Density)
pins: A, K

## LEDBS-0805-145
designator D*, comment Color: Blue  (hidden comment: 150080BS75000)
LED BLUE CLEAR 0805 SMD; Manufacturer 1: Wurth Electronics; Luminous Intensity: 145mcd; Viewing Angle: 140°; Forward Voltage: 3.2V; Wavelength: 470nm; Lens Style: Clear,Rectangular; Forward Current: 30mA; Test Current: 20mA; .Creator: GP; ComponentLink1Description: Datasheet; ComponentLink1URL: https://www.we-online.com/catalog/datasheet/150080BS75000.pdf; ComponentLink2Description: Where buy it; ComponentLink2URL: https://katalog.we-online.de/en/led/WL-SMCW/150080BS75000; Supplier 1: RSComponents; Manufacturer Part Number 1: 150080BS75000; RoHS: Yes; Category: LEDs; Stock 1: 7400; Pricing 1: 50=0,19300, 500=0,12900, 1000=0,12200, 2000=0,11700, 4000=0,11100 (USD); Mount: Surface Mount; Case/Package: 0805; Case Code (Metric): 2012; Case Code (Imperial): 0805; Min Operating Temperature: -40°C; Max Operating Temperature: 85°C; Package Quantity: 4000; Packaging: Tape and Reel; Dominant Wavelength: 470nm; Length: 2mm; Width: 1.25mm; Height: 0.7mm; REACH SVHC: Unknown; RoHS Compliant: Yes; Lead Free: Lead Free; ComponentLink3URL: https://datasheet.ciiva.com/23843/150080bs75000-23843251.pdf?src-supplier=Newark; ComponentLink3Description: https://datasheet.ciiva.com/23843/150080bs75000-23843251.pdf?src-supplier=Newark; ComponentLink4URL: https://datasheet.ciiva.com/22656/1740214-22656954.pdf?src-supplier=Element14; ComponentLink4Description: https://datasheet.ciiva.com/22656/1740214-22656954.pdf?src-supplier=Element14; ComponentLink5URL: https://datasheet.ciiva.com/29279/759433-da-01-en-chipled-0805-w-kl-blau-150080bs75000-29279203.pdf?src-supplier=Conrad; ComponentLink5Description: https://datasheet.ciiva.com/29279/759433-da-01-en-chipled-0805-w-kl-blau-150080bs75000-29279203.pdf?src-supplier=Conrad; ComponentLink6URL: https://datasheet.ciiva.com/29562/150080bs75000-29562922.pdf?src-supplier=Digi-Key; ComponentLink6Description: https://datasheet.ciiva.com/29562/150080bs75000-29562922.pdf?src-supplier=Digi-Key; ComponentLink7URL: https://datasheet.ciiva.com/29562/150080bs75000-29562923.pdf?src-supplier=Digi-Key; ComponentLink7Description: https://datasheet.ciiva.com/29562/150080bs75000-29562923.pdf?src-supplier=Digi-Key; Supplier Part Number 1: 8154228
footprint LED_0805_WE (SODFL, 2-Leads, Body 1,60x3,20mm, IPC Medium Density)
pins: A, K

## LEDBS-1206-145
designator D*, comment Color: Blue  (hidden comment: 150120BS75000)
Led, Blue, 470 Nm, 3.2 V, 30 Ma, 145 Mcd Rohs Compliant: Yes; Manufacturer: Wurth Electronics; Luminous Intensity: 145mcd; Viewing Angle: 140°; Wavelength: 470nm; Forward Current: 30mA; Lens Style: Clear,Rectangular; Test Current: 20mA; Forward Voltage: 3.2V; .Creator: GP; Supplier 1: RSComponents; Manufacturer Part Number: 150120BS75000; RoHS: Yes; Category: LEDs; Stock 1: 1; Pricing 1: 50=0,23200, 500=0,16400, 750=0,15500, 1500=0,15000, 3000=0,14200 (USD); Mount: Surface Mount; Case/Package: 1206; Case Code (Metric): 3216; Case Code (Imperial): 1206; Min Operating Temperature: -40°C; Max Operating Temperature: 85°C; Package Quantity: 3000; Packaging: Tape and Reel; Dominant Wavelength: 470nm; Length: 3.2mm; Width: 1.6mm; Height: 0.68mm; REACH SVHC: Unknown; RoHS Compliant: Yes; ComponentLink1URL: https://datasheet.ciiva.com/22656/150120bs75000-22656976.pdf?src-supplier=Element14; ComponentLink1Description: https://datasheet.ciiva.com/22656/150120bs75000-22656976.pdf?src-supplier=Element14; ComponentLink2URL: https://datasheet.ciiva.com/29279/759440-da-01-en-chipled-1206-w-kl-blau-150120bs75000-29279045.pdf?src-supplier=Conrad; ComponentLink2Description: https://datasheet.ciiva.com/29279/759440-da-01-en-chipled-1206-w-kl-blau-150120bs75000-29279045.pdf?src-supplier=Conrad; ComponentLink3URL: https://datasheet.ciiva.com/29561/150120bs75000-29561882.pdf?src-supplier=Digi-Key; ComponentLink3Description: https://datasheet.ciiva.com/29561/150120bs75000-29561882.pdf?src-supplier=Digi-Key; Supplier Part Number 1: 8154243; ComponentLink4Description: Where buy it; ComponentLink4URL: https://www.we-online.com/catalog/en/WL-SMCW?sq=150120BS75000#150120BS75000
footprint LED_1206_WE (SODFL, 2-Leads, Body 1,60x3,20mm, IPC Medium Density)
pins: A, K

## LEDGS-0805-450
designator D*, comment Color: Green  (hidden comment: 150080GS75000)
Led, Green, 520 Nm, 3.2 V, 30 Ma, 450 Mcd Rohs Compliant: Yes; Manufacturer 1: Wurth Electronics; Viewing Angle: 140°; Lens Style: Clear,Rectangular; Luminous Intensity: 450mcd; Forward Voltage: 3.2V; Wavelength: 520nm; Forward Current: 30mA; Test Current: 20mA; .Creator: GP; ComponentLink1Description: Datasheet; ComponentLink1URL: https://www.we-online.com/catalog/datasheet/150080GS75000.pdf; ComponentLink2Description: Where buy it; ComponentLink2URL: https://katalog.we-online.de/en/led/WL-SMCW/150080GS75000; Supplier 1: RSComponents; Manufacturer Part Number 1: 150080GS75000; RoHS: Yes; Category: LEDs; Stock 1: 4350; Pricing 1: 50=0,19300, 500=0,12900, 1000=0,12300, 2000=0,11700, 4000=0,11100 (USD); Mount: Surface Mount; Case/Package: 0805; Case Code (Metric): 2012; Case Code (Imperial): 0805; Min Operating Temperature: -40°C; Max Operating Temperature: 85°C; Package Quantity: 4000; Packaging: Cut Tape; Dominant Wavelength: 520nm; Length: 2mm; Width: 1.25mm; Height: 0.7mm; REACH SVHC: Unknown; RoHS Compliant: Yes; ComponentLink3URL: https://datasheet.ciiva.com/29563/150080gs75000-29563008.pdf?src-supplier=Digi-Key; ComponentLink3Description: https://datasheet.ciiva.com/29563/150080gs75000-29563008.pdf?src-supplier=Digi-Key; ComponentLink4URL: https://datasheet.ciiva.com/29279/759434-da-01-en-chipled-0805-w-kl-gruen-150080gs75000-29279039.pdf?src-supplier=Conrad; ComponentLink4Description: https://datasheet.ciiva.com/29279/759434-da-01-en-chipled-0805-w-kl-gruen-150080gs75000-29279039.pdf?src-supplier=Conrad; Supplier Part Number 1: 8154221
footprint LED_0805_WE (SODFL, 2-Leads, Body 1,60x3,20mm, IPC Medium Density)
pins: A, K

## LEDGS-1206-450
designator D*, comment Color: Green  (hidden comment: 150120GS75000)
Led, Green, 520 Nm, 3.2 V, 30 Ma, 450 Mcd Rohs Compliant: Yes; Manufacturer: Wurth Electronics; Wavelength: 520nm; Luminous Intensity: 450mcd; Viewing Angle: 140°; Forward Current: 30mA; Lens Style: Clear,Rectangular; Test Current: 20mA; Forward Voltage: 3.2V; .Creator: GP; Supplier 1: RSComponents; RoHS: Yes; Category: LEDs; Stock 1: 1; Pricing 1: 50=0,23200, 500=0,16400, 750=0,15500, 1500=0,15000, 3000=0,14200 (USD); Mount: Surface Mount; Case/Package: 1206; Case Code (Metric): 3216; Case Code (Imperial): 1206; Min Operating Temperature: -40°C; Max Operating Temperature: 85°C; Package Quantity: 3000; Packaging: Tape and Reel; Dominant Wavelength: 520nm; Length: 3.2mm; Width: 1.6mm; Height: 0.68mm; REACH SVHC: Unknown; RoHS Compliant: Yes; ComponentLink1URL: https://datasheet.ciiva.com/22656/150120gs75000-22656979.pdf?src-supplier=Element14; ComponentLink1Description: https://datasheet.ciiva.com/22656/150120gs75000-22656979.pdf?src-supplier=Element14; ComponentLink2URL: https://datasheet.ciiva.com/29279/759441-da-01-en-chipled-1206-w-kl-gruen-150120gs75000-29279042.pdf?src-supplier=Conrad; ComponentLink2Description: https://datasheet.ciiva.com/29279/759441-da-01-en-chipled-1206-w-kl-gruen-150120gs75000-29279042.pdf?src-supplier=Conrad; ComponentLink3URL: https://datasheet.ciiva.com/48430/150120gs75000-eng-tds-48430053.pdf?src-supplier=Distrelec; ComponentLink3Description: https://datasheet.ciiva.com/48430/150120gs75000-eng-tds-48430053.pdf?src-supplier=Distrelec; ComponentLink4URL: https://datasheet.ciiva.com/29561/150120gs75000-29561883.pdf?src-supplier=Digi-Key; ComponentLink4Description: https://datasheet.ciiva.com/29561/150120gs75000-29561883.pdf?src-supplier=Digi-Key; ComponentLink5URL: https://datasheet.ciiva.com/29561/150120gs75000-29561884.pdf?src-supplier=Digi-Key; ComponentLink5Description: https://datasheet.ciiva.com/29561/150120gs75000-29561884.pdf?src-supplier=Digi-Key; ComponentLink6URL: https://datasheet.ciiva.com/29561/150120gs75000-29561885.pdf?src-supplier=Digi-Key; ComponentLink6Description: https://datasheet.ciiva.com/29561/150120gs75000-29561885.pdf?src-supplier=Digi-Key; Supplier Part Number 1: 8154247P; Manufacturer Part Number: 150120GS75000; ComponentLink7Description: Where buy it; ComponentLink7URL: https://www.we-online.com/catalog/en/WL-SMCW?sq=150120GS75000#150120GS75000
footprint LED_1206_WE (SODFL, 2-Leads, Body 1,60x3,20mm, IPC Medium Density)
pins: A, K

## LEDGS-1411-1000
designator D*, comment Color: Green  (hidden comment: 150141GS73100)
Led, Green, 525 Nm, 3.1 V, 30 Ma, 1 Cd Rohs Compliant: Yes; Manufacturer: Wurth Electronics; Luminous Intensity: 1000mcd; Viewing Angle: 120°; Forward Voltage: 3.1V; Lens Style: Clear,Round; Wavelength: 525nm; Forward Current: 30mA; Test Current: 20mA; .Creator: GP; Category: Diode LED; ComponentLink1Description: Datasheet; ComponentLink1URL: https://www.we-online.com/catalog/datasheet/150141GS73100.pdf; ComponentLink2Description: Where buy it; ComponentLink2URL: https://www.we-online.com/catalog/en/WL-SMTW?sq=150141GS73100#150141GS73100; Supplier 1: Digi-Key; Manufacturer Part Number: 150141GS73100; RoHS: Yes; Stock 1: 60470; Pricing 1: 1=0,19000, 50=0,18200, 100=0,15800, 500=0,12100 (USD); Mount: Surface Mount; Case/Package: 3528; Case Code (Metric): 3528; Case Code (Imperial): 1411; Min Operating Temperature: -40°C; Max Operating Temperature: 85°C; Packaging: Cut Tape; Package Quantity: 2000; Dominant Wavelength: 525nm; Length: 3.5mm; Width: 2.8mm; Height: 1.9mm; REACH SVHC: Unknown; Lead Free: Lead Free; RoHS Compliant: Yes; Supplier Part Number 1: 732-4997-1-ND
footprint LED_3528-WE (Molded Capacitor, 2-Leads, Body 3,20x2,70mm, IPC Low Density)
footprint LED_3528-WE (Molded Capacitor, 2-Leads, Body 3,20x2,70mm, IPC Low Density)
pins: A, K

## LEDGS-2214-1200
designator D*, comment Color: Green  (hidden comment: 150224GS73100)
SMD Mono Color Top LED; Manufacturer: Wurth Electronics; Lens Color: Colorless; Lens Style: Flat; Lens Transparency: Clear; Luminous Intensity: 1200mcd; Forward Voltage: 3V; Test Current: 20mA; Viewing Angle: 120°; Dominant Wavelength: 528nm; .Creator: GP; Category: Diode LED; ComponentLink1Description: Datasheet; ComponentLink1URL: https://www.we-online.com/catalog/datasheet/150224GS73100.pdf; ComponentLink2Description: Where buy it; ComponentLink2URL: https://www.we-online.com/catalog/en/WL-SMTW?sq=224GS73100#150224GS73100; Supplier 1: Digi-Key; Manufacturer Part Number: 150224GS73100; RoHS: Yes; Stock 1: 1704; Pricing 1: 1=0,74000, 50=0,60400, 100=0,43300, 500=0,39400 (USD); Mount: Surface Mount; Case/Package: SMD/SMT; Packaging: Tape and Reel; Length: 2mm; Width: 1.4mm; Height: 1.31mm; RoHS Compliant: Yes; Supplier Part Number 1: 732-11398-1-ND
footprint LED_2214_WE (Molded Capacitor, 2-Leads, Body 2,30x1,40mm, IPC Low Density)
footprint LED_2214_WE (Molded Capacitor, 2-Leads, Body 2,30x1,40mm, IPC Low Density)
pins: A, K

## LEDGS-3535-85
designator D*, comment Color: Green  (hidden comment: 150353GS74500)
High Brightness LED, WL-SMDC Series, 525 nm, Green, 85 lm, 350 mA; Manufacturer: Wurth Electronics; Forward Current: 1A; Wavelength: 525nm; Test Temperature: 25°C; Viewing Angle: 125°; Thermal Resistance of Package: 8°C/W; Luminous Flux: 85lm; Test Current: 350mA; Forward Voltage: 3.4V; .Creator: GP; Supplier 1: Digi-Key; Manufacturer Part Number: 150353GS74500; RoHS: Yes; Pricing 1: 1=3,24000, 50=2,85700, 100=2,34700, 500=2,08000 (USD); Mount: Surface Mount; Case/Package: SMD/SMT; Packaging: Cut Tape; Max Current Rating: 1A; REACH SVHC: Unknown; RoHS Compliant: Yes; ComponentLink1URL: http://www.farnell.com/datasheets/1886832.pdf?src-supplier=Farnell; ComponentLink1Description: http://www.farnell.com/datasheets/1886832.pdf?src-supplier=Farnell; ComponentLink2URL: http://www.farnell.com/datasheets/1886832.pdf?src-supplier=Element14; ComponentLink2Description: http://www.farnell.com/datasheets/1886832.pdf?src-supplier=Element14; Supplier Part Number 1: 732-10350-1-ND; ComponentLink3Description: Where buy it; ComponentLink3URL: https://www.we-online.com/catalog/en/WL-SMDC?sq=150353rs74500&sp=https%3A%2F%2Fwww.we-online.com%2Fweb%2Fen%2Fwuerth_elektronik%2Fsearchpage.php%3Fsearch%3D150353rs74500#150353GS74500
footprint LED_3535_WE (DFN, 2-Leads, Body 3,25x3,25mm, Pitch 2,28mm, IPC Medium Density)
pins: A, K

## LEDRS-0805-150
designator D*, comment Color: Red  (hidden comment: 150080RS75000)
0805(H=0.8mm) 红色 高亮 λD=625nm VF=2V IF=30mA PD=72mW; Manufacturer 1: Wurth Electronics; Luminous Intensity: 150mcd; Viewing Angle: 140°; Forward Voltage: 2V; Wavelength: 625nm; Lens Style: Clear,Rectangular; Forward Current: 30mA; Test Current: 20mA; .Creator: DR; ComponentLink1Description: Datasheet; ComponentLink1URL: https://www.we-online.com/catalog/datasheet/150080RS75000.pdf; ComponentLink2Description: Where buy it; ComponentLink2URL: https://katalog.we-online.de/en/led/WL-SMCW/150080RS75000; Supplier 1: RSComponents; Manufacturer Part Number 1: 150080RS75000; RoHS: Yes; Category: LEDs; Stock 1: 1; Pricing 1: 50=0,19300, 500=0,12900, 1000=0,12300, 2000=0,11700, 4000=0,11100 (USD); Mount: Surface Mount; Case/Package: 0805; Case Code (Metric): 2012; Case Code (Imperial): 0805; Min Operating Temperature: -40°C; Max Operating Temperature: 85°C; Package Quantity: 4000; Packaging: Tape and Reel; Dominant Wavelength: 625nm; Length: 2mm; Width: 1.25mm; Height: 0.7mm; REACH SVHC: Unknown; RoHS Compliant: Yes; ComponentLink3URL: https://datasheet.ciiva.com/22656/150080rs75000-22656961.pdf?src-supplier=Element14; ComponentLink3Description: https://datasheet.ciiva.com/22656/150080rs75000-22656961.pdf?src-supplier=Element14; ComponentLink4URL: https://datasheet.ciiva.com/29279/759435-da-01-en-chipled-0805-w-kl-rot-150080rs75000-29279032.pdf?src-supplier=Conrad; ComponentLink4Description: https://datasheet.ciiva.com/29279/759435-da-01-en-chipled-0805-w-kl-rot-150080rs75000-29279032.pdf?src-supplier=Conrad; Supplier Part Number 1: 8154225P
footprint LED_0805_WE (SODFL, 2-Leads, Body 1,60x3,20mm, IPC Medium Density)
pins: A, K

## LEDRS-1206-150
designator D*, comment Color: Red  (hidden comment: 150120RS75000)
Led, Red, 625 Nm, 2 V, 30 Ma, 150 Mcd Rohs Compliant: Yes; Manufacturer: Wurth Electronics; Viewing Angle: 140°; Lens Style: Clear,Rectangular; Luminous Intensity: 150mcd; Wavelength: 625nm; Forward Current: 30mA; Test Current: 20mA; Forward Voltage: 2V; .Creator: GP; Supplier 1: RSComponents; Manufacturer Part Number: 150120RS75000; RoHS: Yes; Category: LEDs; Stock 1: 1; Pricing 1: 50=0,23200, 500=0,16400, 750=0,15500, 1500=0,15000, 3000=0,14200 (USD); Mount: Surface Mount; Case/Package: 1206; Case Code (Metric): 3216; Case Code (Imperial): 1206; Min Operating Temperature: -40°C; Max Operating Temperature: 85°C; Package Quantity: 1; Packaging: Tape and Reel; Dominant Wavelength: 625nm; Length: 3.2mm; Width: 1.6mm; Height: 0.68mm; REACH SVHC: Unknown; RoHS Compliant: Yes; ComponentLink1URL: https://datasheet.ciiva.com/29561/150120rs75000-29561888.pdf?src-supplier=Digi-Key; ComponentLink1Description: https://datasheet.ciiva.com/29561/150120rs75000-29561888.pdf?src-supplier=Digi-Key; ComponentLink2URL: https://datasheet.ciiva.com/29279/759442-da-01-en-chipled-1206-w-kl-rot-150120rs75000-29279067.pdf?src-supplier=Conrad; ComponentLink2Description: https://datasheet.ciiva.com/29279/759442-da-01-en-chipled-1206-w-kl-rot-150120rs75000-29279067.pdf?src-supplier=Conrad; ComponentLink3URL: https://datasheet.ciiva.com/22656/1911465-22656982.pdf?src-supplier=Element14; ComponentLink3Description: https://datasheet.ciiva.com/22656/1911465-22656982.pdf?src-supplier=Element14; ComponentLink4URL: https://datasheet.ciiva.com/48430/150120rs75000-eng-tds-48430054.pdf?src-supplier=Distrelec; ComponentLink4Description: https://datasheet.ciiva.com/48430/150120rs75000-eng-tds-48430054.pdf?src-supplier=Distrelec; Supplier Part Number 1: 8154256P; ComponentLink5Description: Where buy it; ComponentLink5URL: https://www.we-online.com/catalog/en/WL-SMCW#/articles/WL-SMCW-1206
footprint LED_1206_WE (SODFL, 2-Leads, Body 1,60x3,20mm, IPC Medium Density)
pins: A, K

## LEDRS-1206-1100-Reverse
designator D*, comment Color: Red  (hidden comment: 156120RS82500)
Led, Red, 1.1CD, 624NM, 1206; Manufacturer: Wurth Electronics; Lens Color: Colorless; Lens Style: Round,Domed; Lens Transparency: Clear; Luminous Intensity: 1100mcd; Forward Voltage: 2V; Test Current: 20mA; Viewing Angle: 20°; .Creator: GP; Category: Diode LED; Supplier 1: RSComponents; Manufacturer Part Number: 156120RS82500; RoHS: Yes; Stock 1: 1; Pricing 1: 25=0,28100, 250=0,18600, 625=0,18100, 1250=0,17700, 2500=0,17200 (USD); Mount: Surface Mount; Case/Package: 1206; Case Code (Imperial): 1206; Case Code (Metric): 3216; Packaging: Cut Tape; Dominant Wavelength: 624nm; Length: 3.2mm; Width: 1.6mm; Height: 1.95mm; RoHS Compliant: Yes; ComponentLink1URL: https://www.we-online.com/catalog/datasheet/156120RS82500.pdf; ComponentLink1Description: Datasheet; Supplier Part Number 1: 1766057; ComponentLink2Description: Where buy it; ComponentLink2URL: https://www.we-online.com/catalog/en/WL-SMRW?sq=156120rs82500&sp=https%3A%2F%2Fwww.we-online.com%2Fweb%2Fen%2Fwuerth_elektronik%2Fsearchpage.php%3Fsearch%3D156120RS82500#156120RS82500
footprint LED_1206_WE_REVERSE (Molded Capacitor, 2-Leads, Body 3,20x1,60mm, IPC Low Density)
pins: A, K